# Altium footprint library 下板20130801.PcbLib: 47 footprints (part 1 of 3)
Each footprint in its own frame and in the unit in brackets; x right, y up, seen from the top. Pads: shape width x height; smd on the part's side, far side on the other; paste and mask are expansions set on the pad; w line width, h text height; cw(c..) or ccw(c..) is an arc to the next point about the centre after c.
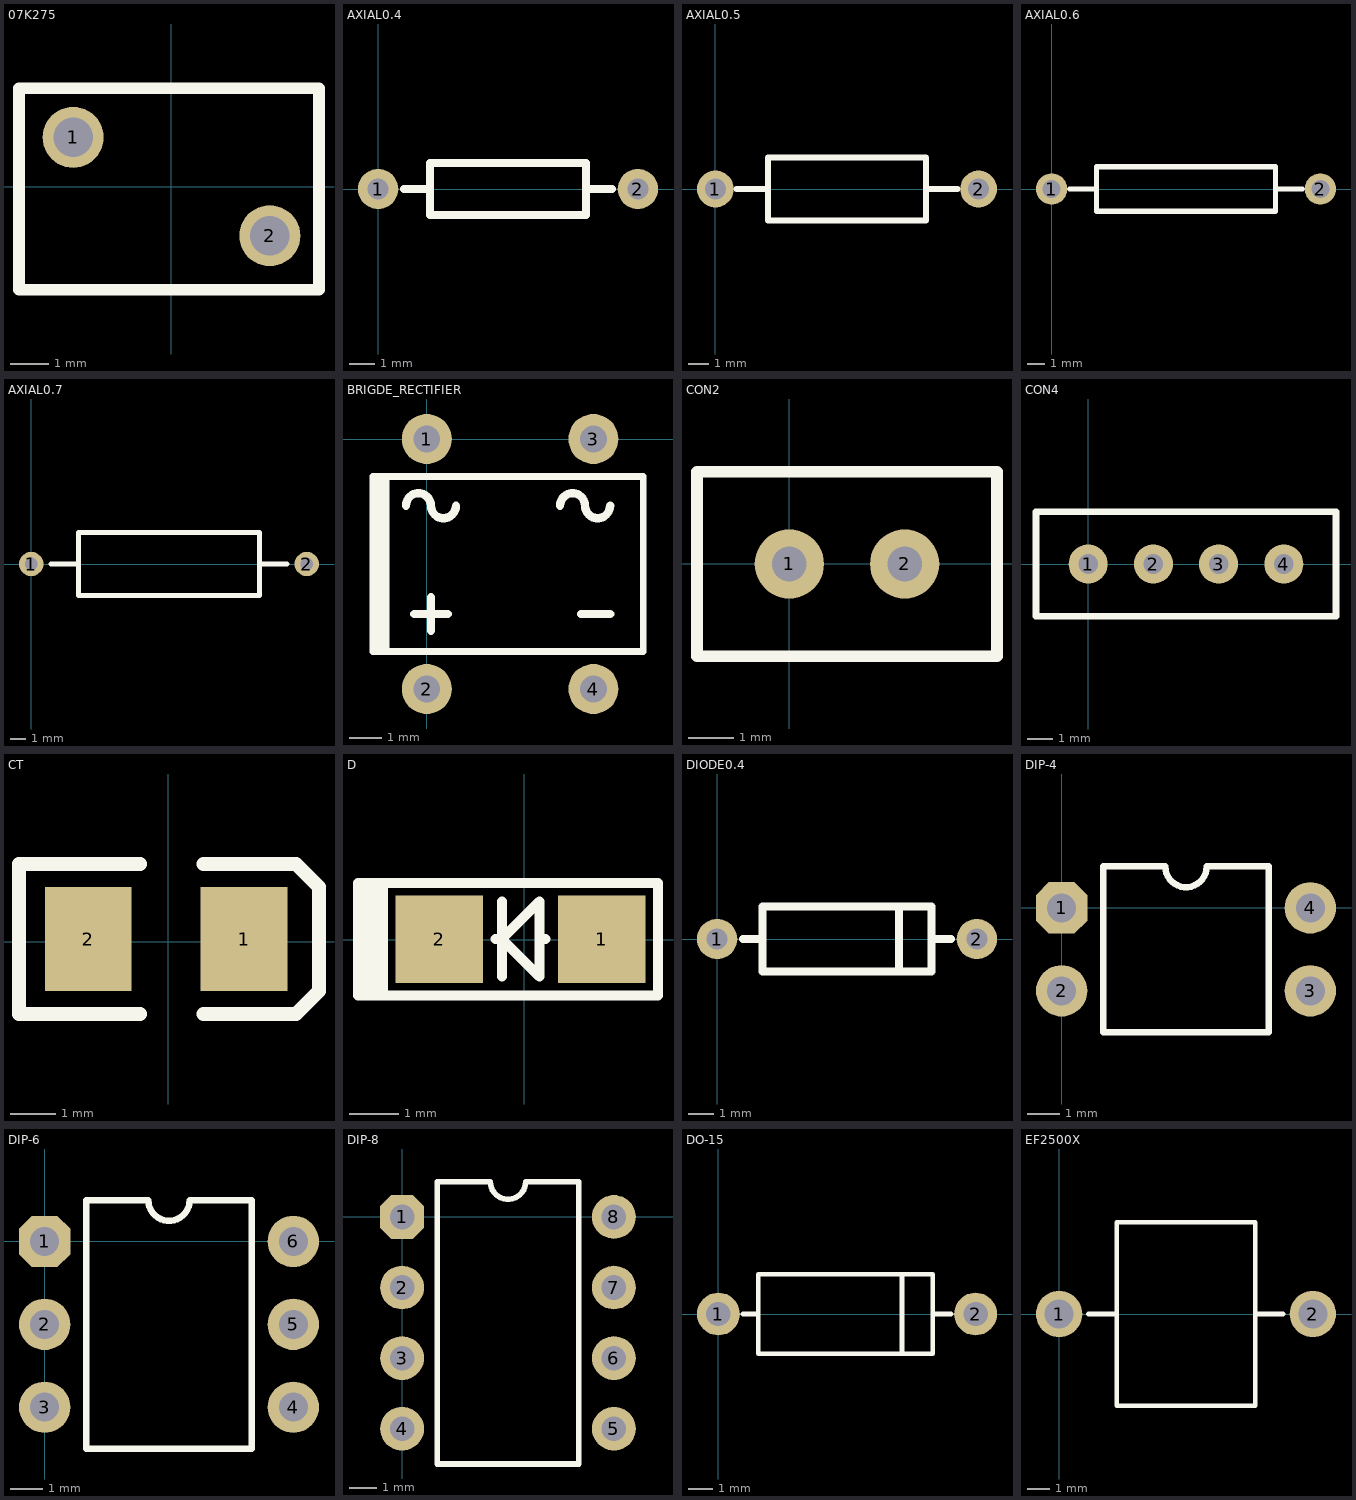
[diagram p0: the footprints below, top view; thin cyan lines are the x and y axes]

## 07K275 [mil]
height 39.37
pads (2):
  round 62 hole 40: 1(-100,50) 2(100,-50)
Top Overlay:
  lines w12: -155,-105 150,-105 150,100 -155,100 -155,-105

## AXIAL0.4 [mil]
pads (2):
  round 62 hole 32: 1(0,0) 2(400,0)
Top Overlay:
  lines w12: 40,0 80,0 ; 320,0 360,0 ; 80,-40 80,40 320,40 320,-40 80,-40

## AXIAL0.5 [mil]
pads (2):
  round 70 hole 40: 1(0,0) 2(500,0)
Top Overlay:
  lines w12: 40,0 100,0 ; 400,0 460,0 ; 100,-60 400,-60 400,60 100,60 100,-60

## AXIAL0.6 [mil]
pads (2):
  round 70 hole 40: 1(0,0) 2(600,0)
Top Overlay:
  lines w12: 40,0 100,0 ; 500,0 560,0 ; 100,-50 500,-50 500,50 100,50 100,-50

## AXIAL0.7 [mil]
pads (2):
  round 62 hole 32: 1(0,0) 2(700,0)
Top Overlay:
  lines w12: 50,0 120,0 ; 580,0 650,0 ; 120,-80 580,-80 580,80 120,80 120,-80

## BRIGDE_RECTIFIER [mil]
pads (4):
  round 60 hole 32: 1(0,0) 2(0,-300) 3(200,0) 4(200,-300)
Top Overlay:
  rectangle: -65,-255 -45,-45
  lines w8: -65,-255 260,-255 260,-45 -65,-45 -65,-255
  lines w10: -25,-80 cw(c-10,-80) 5,-80 ccw(c20,-80) 35,-80 ; -15,-210 25,-210 ; 5,-230 5,-190 ; 160,-80 cw(c175,-80) 190,-80 ccw(c205,-80) 220,-80 ; 185,-210 220,-210

## CON2 [mil]
pads (2):
  round 60 hole 30: 1(0,0) 2(100,0)
Top Overlay:
  lines w10: -80,-80 -80,80 180,80 180,-80 -80,-80

## CON4 [mil]
pads (4):
  round 60 hole 30: 1(0,0) 2(100,0) 3(200,0) 4(300,0)
Top Overlay:
  lines w10: -80,-80 -80,80 380,80 380,-80 -80,-80

## CT [mil]
pads (2):
  rect 75x90 smd: 1(65.6,2.23) 2(-69.4,2.23)
Top Overlay:
  lines w12: -24.4,-62.77 -129.4,-62.77 -129.4,67.23 -24.4,67.23 ; 30.6,-62.77 110.6,-62.77 130.6,-42.77 130.6,47.23 110.6,67.23 30.6,67.23

## D [mil]
pads (2):
  rect 70x70 smd: 1(61.81,0.74) 2(-68.19,0.74)
Top Overlay:
  lines w8: -128.19,-43.26 -128.19,45.74 ; -118.19,-43.26 -118.19,44.74 ; -23.19,0.74 -18.19,0.74 ; -18.19,-29.26 -18.19,30.74 ; 11.81,0.74 13.06,0.74 15.56,0.74 16.81,0.74 ; -123.19,-44.26 -113.19,-44.26 ; -123.19,-44.26 -123.19,45.74 ; -123.19,-44.26 -133.19,-44.26 -133.19,45.74 -123.19,45.74 ; -123.19,45.74 -113.19,45.74 ; -113.19,-44.26 106.81,-44.26 106.81,45.74 -113.19,45.74 ; -113.19,-44.26 -113.19,45.74 ; -18.19,0.74 11.81,-29.26 11.81,30.74 -18.19,0.74

## DIODE0.4 [mil]
pads (2):
  round 62 hole 32: 1(0,0) 2(400,0)
Top Overlay:
  lines w12: 40,0 70,0 ; 280,-50 280,50 ; 330,0 360,0 ; 70,-50 70,50 330,50 330,-50 70,-50

## DIP-4 [mil]
pads (4):
  oct 62x62 hole 35: 1(0,0)
  round 62 hole 35: 2(0,-100) 3(300,-100) 4(300,0)
Top Overlay:
  lines w7.87: 50,-150 50,50 125,50 ccw(c150,50) 175,50 250,50 250,-150 50,-150

## DIP-6 [mil]
pads (6):
  oct 62x62 hole 35: 1(0,0)
  round 62 hole 35: 2(0,-100) 3(0,-200) 4(300,-200) 5(300,-100) 6(300,0)
Top Overlay:
  lines w7.87: 50,-250 50,50 125,50 ccw(c150,50) 175,50 250,50 250,-250 50,-250

## DIP-8 [mil]
pads (8):
  oct 62x62 hole 35: 1(0,0)
  round 62 hole 35: 2(0,-100) 3(0,-200) 4(0,-300) 5(300,-300) 6(300,-200) 7(300,-100) 8(300,0)
Top Overlay:
  lines w7.87: 50,-350 250,-350 250,50 175,50 cw(c150,50) 125,50 50,50 50,-350

## DO-15 [mil]
pads (2):
  round 70 hole 40: 1(0,0) 2(420,0)
Top Overlay:
  lines w8: 40,0 65,0 ; 300,-65 300,65 ; 350,0 380,0 ; 65,-65 350,-65 350,65 65,65 65,-65

## EF2500X [mil]
pads (2):
  round 80 hole 50: 1(0,0) 2(437,0)
Top Overlay:
  lines w8: 50,0 99,0 ; 338,0 386,0 ; 99,-158 99,158 338,158 338,-158 99,-158